# Altium footprint library rcl_PTH.PCBLIB: 348 footprints (part 2 of 22)
Each footprint in its own frame and in the unit in brackets; x right, y up, seen from the top. Pads: shape width x height; smd on the part's side, far side on the other; paste and mask are expansions set on the pad; w line width, h text height; cw(c..) or ccw(c..) is an arc to the next point about the centre after c.
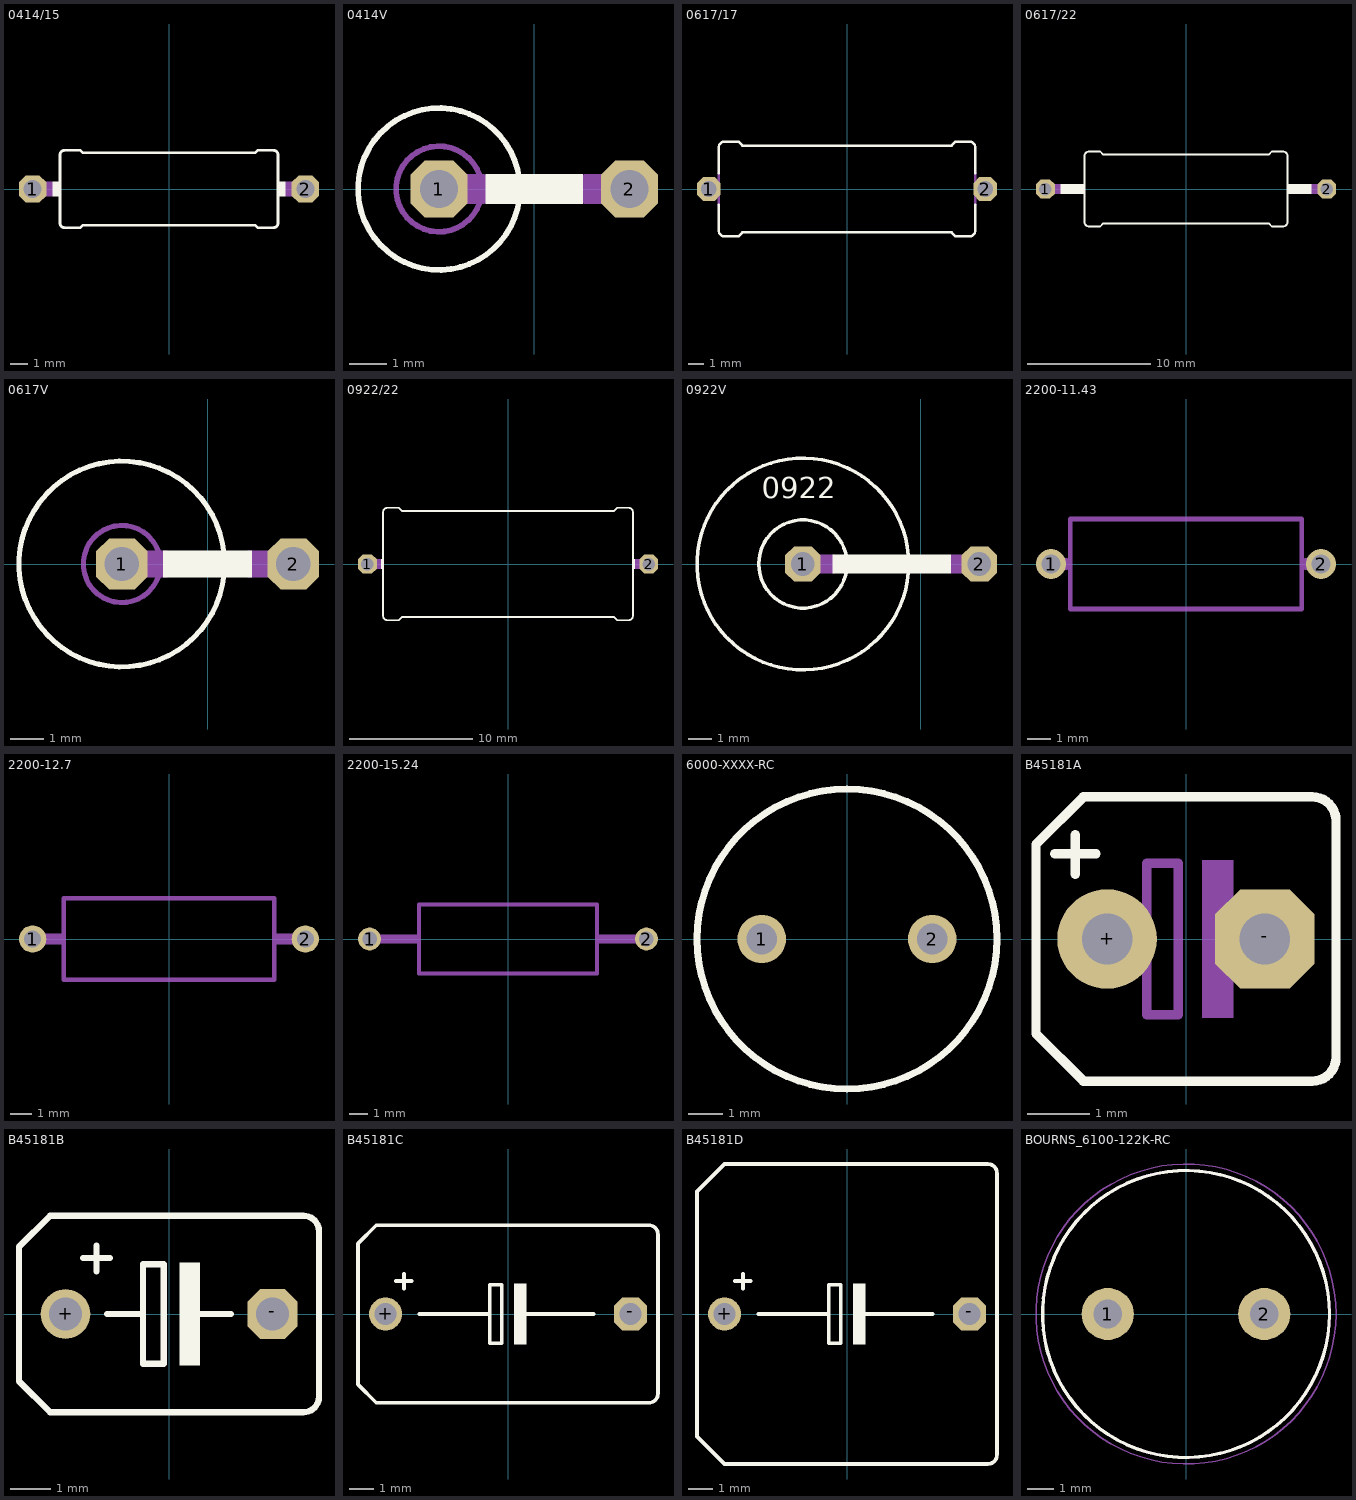
[diagram p1: the footprints below, top view; thin cyan lines are the x and y axes]

## 0414/15 [mil]
pads (2):
  oct 60x60 hole 40: 1(-300,0) 2(300,0)
Top Overlay:
  rectangle: 240,-16 256,16
  rectangle: -256,-16 -240,16
  lines w6: -240,-75 ccw(c-230,-75) -230,-85 -195,-85 -190,-80 190,-80 195,-85 230,-85 ccw(c230,-75) 240,-75 240,75 ccw(c230,75) 230,85 195,85 190,80 -190,80 -195,85 -230,85 ccw(c-230,75) -240,75 -240,-75
Mechanical 16:
  lines w32: -300,0 -260,0 ; 260,0 300,0
3D body "User Library-RES-1W.STEP": height 196.85, standoff -118.11, extent -313.77,-98.53 313.79,98.32

## 0414V [mil]
pads (2):
  oct 60x60 hole 40: 1(-100,0) 2(100,0)
Top Overlay:
  circle w6: c-100,0 r85
  rectangle: -51,-16 51,16
Mechanical 16:
  circle w6: c-100,0 r45
  lines w32: -100,0 -55,0 ; 55,0 100,0

## 0617/17 [mil]
pads (2):
  oct 60x60 hole 40: 1(-350,0) 2(350,0)
Top Overlay:
  lines w6: -325,-40 -325,-105 ccw(c-310,-105) -310,-120 -275,-120 -265,-110 265,-110 275,-120 310,-120 ccw(c310,-105) 325,-105 325,-40 ; -325,40 -325,105 cw(c-310,105) -310,120 -275,120 -265,110 265,110 275,120 310,120 cw(c310,105) 325,105 325,40
Mechanical 16:
  rectangle: 324,-16 336,16
  rectangle: -336,-16 -324,16
  lines w6: -325,-40 -325,40 ; 325,-40 325,40
  lines w32: -350,0 -340,0 ; 340,0 350,0
3D body "User Library-one watt_resistor_700spacing-1.step": height 243.23, standoff -170, extent -365.74,-117.94 365.75,117.96

## 0617/22 [mil]
pads (2):
  oct 60x60 hole 40: 1(-450,0) 2(450,0)
Top Overlay:
  rectangle: 325,-16 401,16
  rectangle: -401,-16 -325,16
  lines w6: -325,-105 ccw(c-310,-105) -310,-120 -275,-120 -265,-110 265,-110 275,-120 310,-120 ccw(c310,-105) 325,-105 325,105 ccw(c310,105) 310,120 275,120 265,110 -265,110 -275,120 -310,120 ccw(c-310,105) -325,105 -325,-105
Mechanical 16:
  lines w32: -450,0 -405,0 ; 405,0 450,0
3D body "User Library-RES 3W -H  L=17 D=6 d=0,8 Pin2Pin=22,86.STEP": height 236.22, standoff -178.87, extent -465.74,-118.12 465.75,118.12

## 0617V [mil]
pads (2):
  oct 60x60 hole 40: 1(-100,0) 2(100,0)
Top Overlay:
  circle w6: c-100,0 r120
  rectangle: -52,-16 52,16
Mechanical 16:
  circle w6: c-100,0 r45
  lines w32: -100,0 -50,0 ; 50,0 100,0
3D body "User Library-RESAD500W80L1600D500_2W.STEP": height 784.78, standoff -136.48, extent -198.43,-98.42 112.6,98.44

## 0922/22 [mil]
pads (2):
  oct 60x60 hole 40: 1(-450,0) 2(450,0)
Top Overlay:
  rectangle: -406,-16 -400,16
  rectangle: 400,-16 406,16
  lines w6: -400,-165 ccw(c-385,-165) -385,-180 -350,-180 -340,-170 340,-170 350,-180 385,-180 ccw(c385,-165) 400,-165 400,165 ccw(c385,165) 385,180 350,180 340,170 -340,170 -350,180 -385,180 ccw(c-385,165) -400,165 -400,-165
Mechanical 16:
  rectangle: 400,-16 422,16
  rectangle: -422,-16 -400,16
  lines w32: -450,0 -425,0 ; 425,0 450,0

## 0922V [mil]
pads (2):
  oct 60x60 hole 40: 1(-200,0) 2(100,0)
Top Overlay:
  circle w6: c-200,0 r180
  circle w6: c-200,0 r75
  rectangle: -150,-16 52,16
  text "0922" at -270,100 h62
Mechanical 16:
  lines w32: -200,0 -150,0 ; 55,0 100,0

## 2200-11.43 [mil]
pads (2):
  round 50 hole 31.5: 1(-225,0) 2(225,0)
Mechanical 16:
  lines w8: -192.91,-74.8 192.91,-74.8 192.91,74.8 -192.91,74.8 -192.91,-74.8
  lines w19.69: -225,0 -200,0 ; 200,0 225,0

## 2200-12.7 [mil]
pads (2):
  round 50 hole 31.5: 1(-250,0) 2(250,0)
Mechanical 16:
  lines w8: -192.91,-74.8 192.91,-74.8 192.91,74.8 -192.91,74.8 -192.91,-74.8
  lines w19.69: -250,0 -200,0 ; 200,0 250,0

## 2200-15.24 [mil]
pads (2):
  round 50 hole 31.5: 1(-300,0) 2(300,0)
Mechanical 16:
  lines w8: -192.91,-74.8 -192.91,74.8 192.91,74.8 192.91,-74.8 -192.91,-74.8
  lines w19.69: -300,0 -200,0 ; 200,0 300,0
3D body "User Library-resistor-1W.step": height 216.54, standoff -177.17, extent -313.78,-100 313.78,96.85

## 6000-XXXX-RC [mil]
pads (2):
  round 56 hole 35.43: 1(-98.43,0) 2(98.43,0)
Top Overlay:
  circle w8: c0,0 r173.23

## B45181A [mil]
pads (2):
  round 63 hole 32: +(-50,0)
  oct 63x63 hole 32: -(50,0)
Top Overlay:
  lines w6: -83,54 -57,54 ; -70,41 -70,66 ; -95,-60 -65,-90 80,-90 ccw(c80,-75) 95,-75 95,75 ccw(c80,75) 80,90 -65,90 -95,60 -95,-60
Mechanical 16:
  rectangle: 10,-50 30,50
  lines w6: -65,0 -25,0 ; 25,0 65,0 ; -25,0 -25,-48 -5,-48 -5,48 -25,48 -25,0

## B45181B [mil]
pads (2):
  round 48 hole 32: +(-100,0)
  oct 48x48 hole 32: -(100,0)
Top Overlay:
  rectangle: 10,-50 30,50
  lines w6: -83,54 -57,54 ; -70,41 -70,66 ; -60,0 -25,0 ; 25,0 60,0 ; -25,0 -25,-48 -5,-48 -5,48 -25,48 -25,0 ; -145,-65 -115,-95 130,-95 ccw(c130,-80) 145,-80 145,80 ccw(c130,80) 130,95 -115,95 -145,65 -145,-65

## B45181C [mil]
pads (2):
  round 54 hole 36: +(-200,0)
  oct 54x54 hole 36: -(200,0)
Top Overlay:
  rectangle: 10,-50 30,50
  lines w6: -183,54 -157,54 ; -170,41 -170,66 ; -145,0 -30,0 ; 25,0 140,0 ; -30,0 -30,48 -10,48 -10,-48 -30,-48 -30,0 ; -245,-115 -245,115 -215,145 230,145 cw(c230,130) 245,130 245,-130 cw(c230,-130) 230,-145 -215,-145 -245,-115

## B45181D [mil]
pads (2):
  round 54 hole 36: +(-200,0)
  oct 54x54 hole 36: -(200,0)
Top Overlay:
  rectangle: 10,-50 30,50
  lines w6: -183,54 -157,54 ; -170,41 -170,66 ; -145,0 -30,0 ; 25,0 140,0 ; -30,0 -30,48 -10,48 -10,-48 -30,-48 -30,0 ; -245,-200 -245,200 -200,245 230,245 cw(c230,230) 245,230 245,-230 cw(c230,-230) 230,-245 -200,-245 -245,-200

## BOURNS_6100-122K-RC [mm] "FIXED IND 1.2MH 570MA 2.2OHM TH, Diameter 11mm, Height 10.5mm"
pads (2):
  round 2 hole 1.1: 1(-3,0) 2(3,0)
Top Overlay:
  circle w0.127: c0,0 r5.5
Mechanical 1:
  circle w0.1: c0,0 r5.5
Mechanical 15:
  circle w0.05: c0,0 r5.75
3D body "6100.stp": height 10.32, standoff -3.83, extent -5.5,-5.5 5.5,5.5